# EAGLE library part FT232RQ (library ftdichip)
USB UART 4th Generation USB UART (USB <-> Serial) Controller
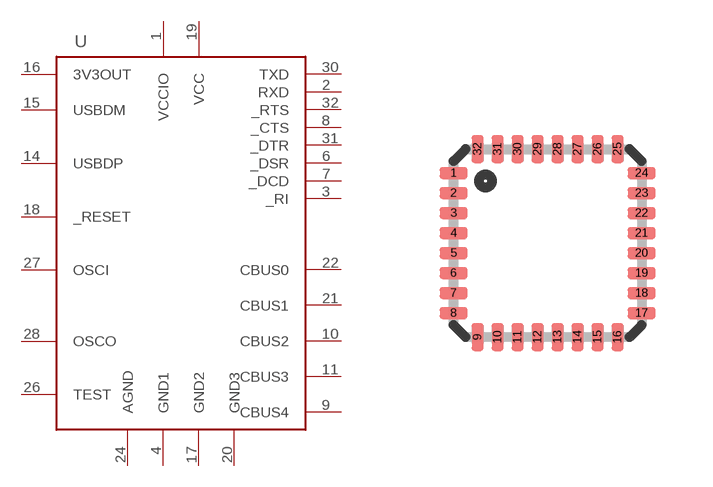
[diagram p4: symbol with the pads of MLF32; footprint MLF32]

Designator prefix -

## FT232RQ  [MLF32]
1  VCCIO  pwr
2  RXD  in
3  _RI  in
4  GND1  pwr
6  _DSR  in
7  _DCD  in
8  _CTS  in
9  CBUS4
10  CBUS2
11  CBUS3
14  USBDP
15  USBDM
16  3V3OUT  out
17  GND2  pwr
18  _RESET  in
19  VCC  pwr
20  GND3  pwr
21  CBUS1
22  CBUS0
24  AGND  pwr
26  TEST  in
27  OSCI  in
28  OSCO  out
30  TXD  out
31  _DTR  out
32  _RTS  out

## Footprint MLF32 (pad centres in mm)
32M1-A Micro Lead Frame package (MLF)
smd 0.7 x 0.3: 1 -2.35,1.75; 2 -2.35,1.25; 3 -2.35,0.75; 4 -2.35,0.25; 5 -2.35,-0.25; 6 -2.35,-0.75; 7 -2.35,-1.25; 8 -2.35,-1.75; 17 2.35,-1.75; 18 2.35,-1.25; 19 2.35,-0.75; 20 2.35,-0.25; 21 2.35,0.25; 22 2.35,0.75; 23 2.35,1.25; 24 2.35,1.75
smd 0.3 x 0.7: 9 -1.75,-2.35; 10 -1.25,-2.35; 11 -0.75,-2.35; 12 -0.25,-2.35; 13 0.25,-2.35; 14 0.75,-2.35; 15 1.25,-2.35; 16 1.75,-2.35; 25 1.75,2.35; 26 1.25,2.35; 27 0.75,2.35; 28 0.25,2.35; 29 -0.25,2.35; 30 -0.75,2.35; 31 -1.25,2.35; 32 -1.75,2.35